# EAGLE library part X__JST_PH_LIEGEND_4 (library 16112011___connector)
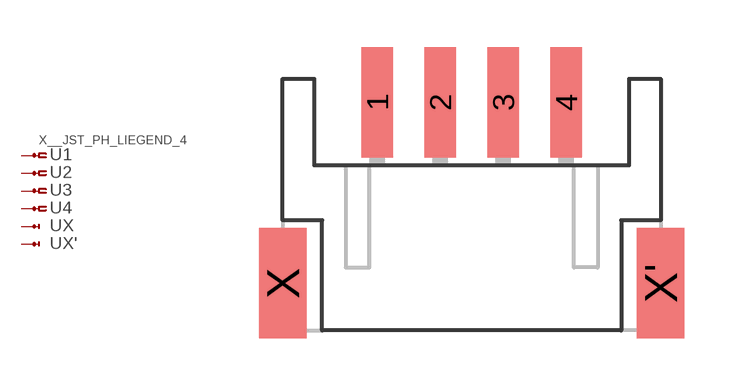
[diagram p12: symbol with the pads of JST_PH_LIEGEND_4; footprint JST_PH_LIEGEND_4]

Designator prefix -; gates 1=PHPIN-NV 2=PHPIN-N 3=PHPIN-N 4=PHPIN-N X=PHPIN-X X'=PHPIN-X

## X__JST_PH_LIEGEND_4  [JST_PH_LIEGEND_4]
1  1:1  pas
2  2:1  pas
3  3:1  pas
4  4:1  pas
X  X:1  pas
X'  X':1  pas

## Footprint JST_PH_LIEGEND_4 (pad centres in mm)
smd 1 x 3.5: 1 0.27,0.08; 2 2.27,0.08; 3 4.27,0.08; 4 6.27,0.08
smd 1.5 x 3.5: X -2.73,-5.67; X' 9.27,-5.67